# Altium schematic symbol library temp_lib.SchLib: 2 symbols
Pins are listed as number, name and electrical type; pins without a type are passive.

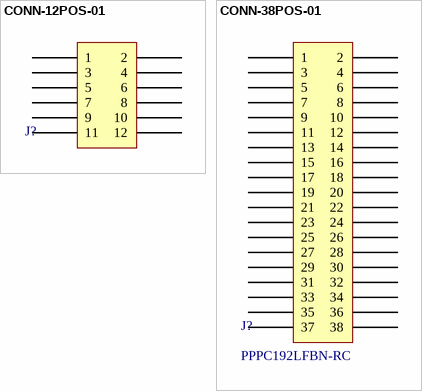
[diagram p0: symbols CONN-12POS-01 to CONN-38POS-01]

## CONN-12POS-01
designator J?, comment PPTC062LFBN-RC  (value not drawn)
12 Position Header Connector 0.100" (2.54mm) Through Hole Tin
footprint CONN-6POS_01
pins: 1, 2, 3, 4, 5, 6, 7, 8, 9, 10, 11, 12

## CONN-38POS-01
designator J?, comment PPPC192LFBN-RC
footprint CONN-38POS_01
pins: 1, 2, 3, 4, 5, 6, 7, 8, 9, 10, 11, 12, 13, 14, 15, 16, 17, 18, 19, 20, 21, 22, 23, 24, 25, 26, 27, 28, 29, 30, 31, 32, 33, 34, 35, 36, 37, 38